# EAGLE library part BQ27510-G2 (library texas)
Battery Fuel Gauge for 1-Series Li-Ion Systems
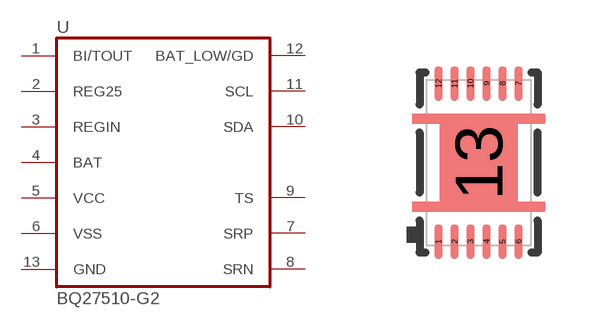
[diagram p60: symbol with the pads of SON12-DRZ; footprint SON12-DRZ]

Designator prefix U

## BQ27510-G2  [SON12-DRZ]
1  BI/TOUT
2  REG25  out
3  REGIN  in
4  BAT  in
5  VCC  pwr
6  VSS  pwr
7  SRP  in
8  SRN  in
9  TS
10  SDA
11  SCL  in
12  BAT_LOW/GD  out
13  GND  pwr

## Footprint SON12-DRZ (pad centres in mm)
SON 12 DRZ (S-PDSO-N12)
smd 0.2 x 0.85: 1 -1,-1.975; 2 -0.6,-1.975; 3 -0.2,-1.975; 4 0.2,-1.975; 5 0.6,-1.975; 6 1,-1.975; 7 1,1.975; 8 0.6,1.975; 9 0.2,1.975; 10 -0.2,1.975; 11 -0.6,1.975; 12 -1,1.975
smd 1.95 x 2.45: 13 0,0